# Altium schematic symbol library Schlib1.SchLib: 122 symbols
Pins are listed as number, name and electrical type; pins without a type are passive.

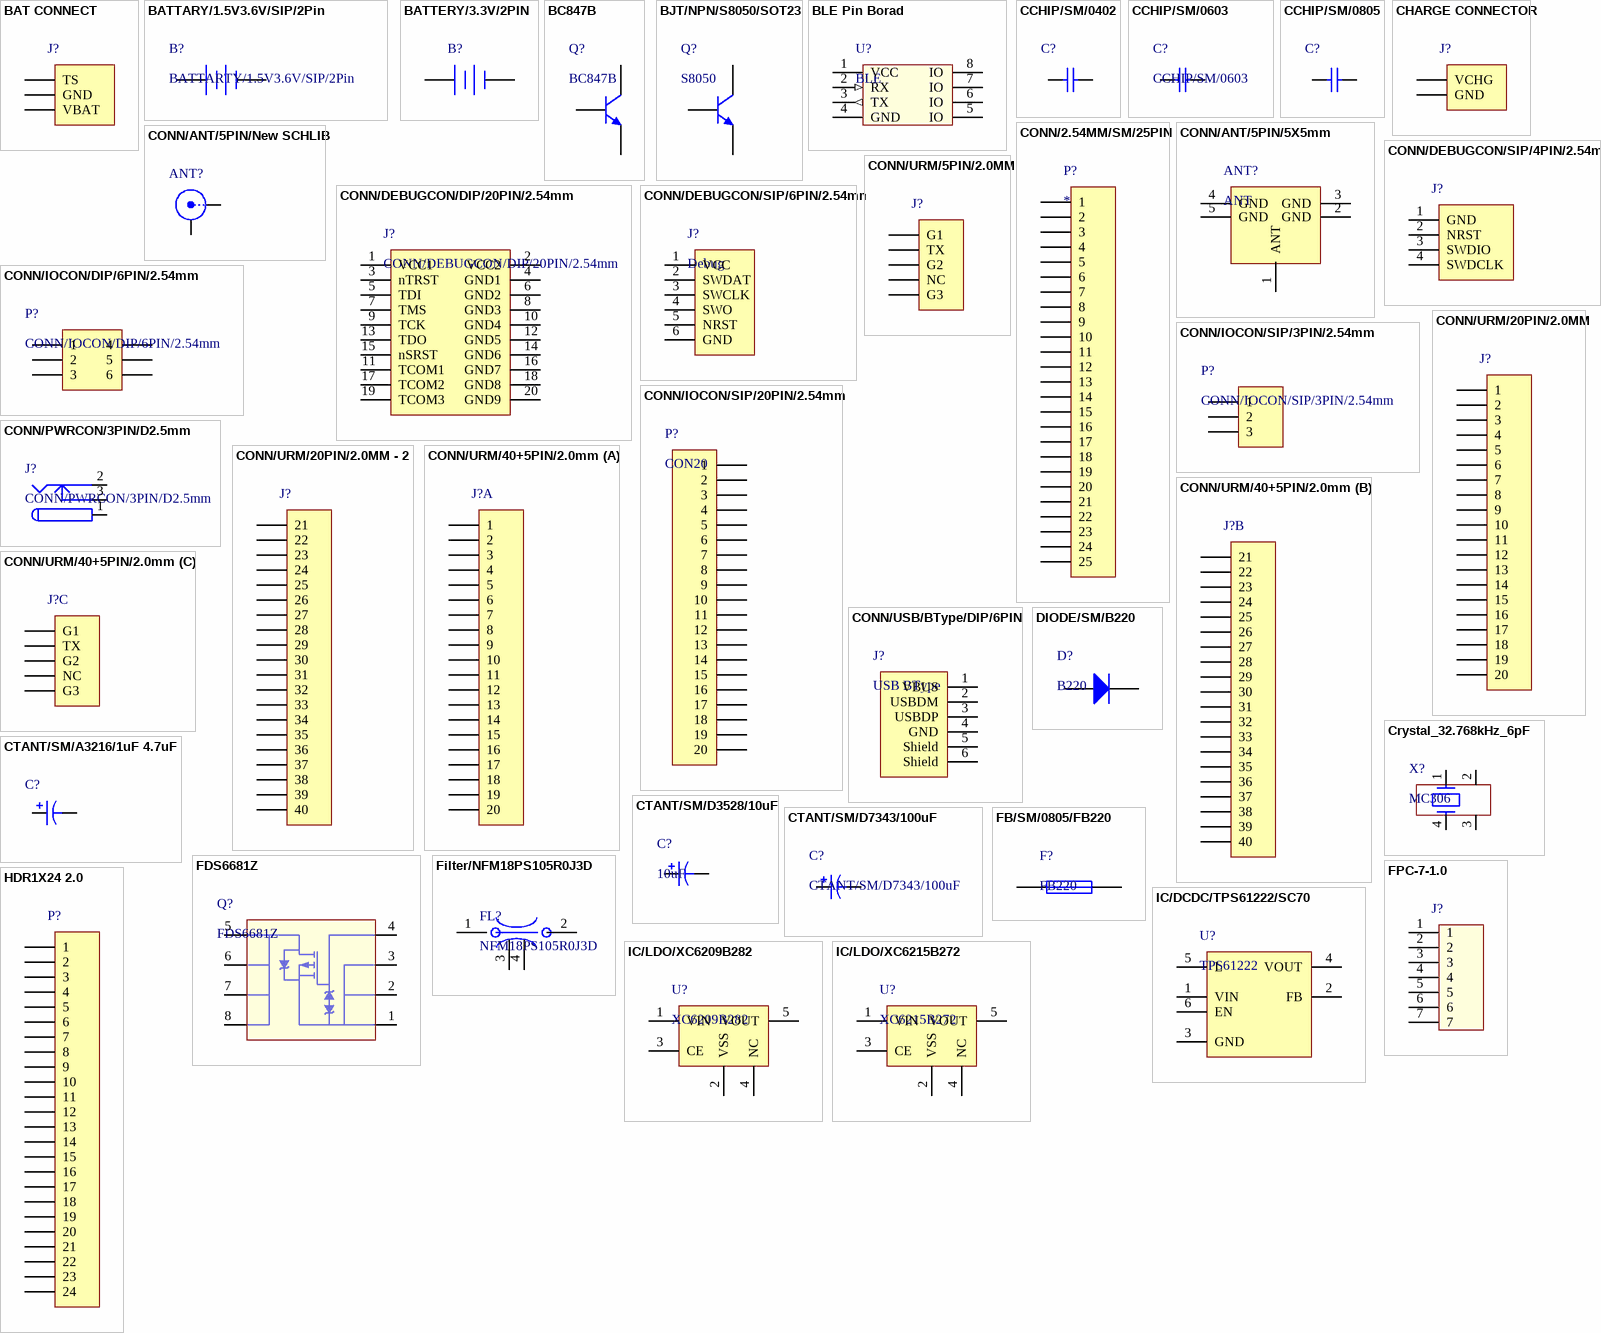
[diagram p0: symbols BAT CONNECT to IC/LDO/XC6215B272]

## BAT CONNECT
designator J?, comment XH-3  (value not drawn)
XH-3 2.0MM 3PIN
footprint XH-3
pins: 1 TS, 2 GND, 3 VBAT

## BATTARY/1.5V3.6V/SIP/2Pin
designator B?, comment BATTARTY/1.5V3.6V/SIP/2Pin
1.5V/3.6V AA电池座(5号电池)
footprint CONN/BATBOX/1.5V/14500
pins: 1 +, 2 -

## BATTERY/3.3V/2PIN
designator B?  (value not drawn)
3.3V纽扣电池(4节并联)CR2032
footprint BATTERY/3.3V/2PIN
pins: 1 +, 2 -

## BC847B
designator Q?
General purpose NPN Transistor
footprint SOT23_BC847B
pins: 1 B, 2 E, 3 C

## BJT/NPN/S8050/SOT23
designator Q?, comment S8050
NPN小功率三极管
footprint SOT-23-3
pins: 1 B, 2 E, 3 C

## BLE Pin Borad
designator U?, comment BLE
BLE Pin Board USRAT SPI  I2C
footprint BLE Pin Board
pins: 1 VCC (power), 2 RX (in), 3 TX (out), 4 GND (power), 5 IO, 6 IO, 7 IO, 8 IO

## CCHIP/SM/0402
designator C?  (value not drawn)
0402贴片电容
footprint 0402 with no topoverlayer
pins: 1, 2

## CCHIP/SM/0603
designator C?
瓷片电容
footprint 0603c
footprint 0402
footprint 0805C
footprint 0603 with no topoverlay
pins: 1, 2

## CCHIP/SM/0805
designator C?  (value not drawn)
瓷片电容
footprint 0805 with no topoverlay
pins: 1, 2

## CHARGE CONNECTOR
designator J?  (value not drawn)
Charge Connector XH-2 2.0MM
footprint XH-2
pins: 1 VCHG, 2 GND

## CONN/2.54MM/SM/25PIN
designator P?
2.54mm间距 25pin 贴片排针
footprint CONN/25PIN/2.54MM/SM
pins: 1, 2, 3, 4, 5, 6, 7, 8, 9, 10, 11, 12, 13, 14, 15, 16, 17, 18, 19, 20, 21, 22, 23, 24, 25

## CONN/ANT/5PIN/5X5mm
designator ANT?, comment ANT
直插天线接口,5PIN,5X5mm
footprint CONN/ANT/5PIN/5X5mm
pins: 1 ANT, 2 GND, 3 GND, 4 GND, 5 GND

## CONN/ANT/5PIN/New SCHLIB
designator ANT?  (value not drawn)
天线连接器
pins: 1 Signal "RF signal", 2 GND "Ground signal", 3 hidden to GND, 4 hidden to GND, 5 hidden to GND

## CONN/DEBUGCON/DIP/20PIN/2.54mm
designator J?
STM32调试接口双排20pin
footprint CONN/DEBUGCON/20PIN
pins: 1 VCC1, 2 VCC2, 3 nTRST, 4 GND1, 5 TDI, 6 GND2, 7 TMS, 8 GND3, 9 TCK, 10 GND4, 11 TCOM1, 12 GND5, 13 TDO, 14 GND6, 15 nSRST, 16 GND7, 17 TCOM2, 18 GND8, 19 TCOM3, 20 GND9

## CONN/DEBUGCON/SIP/4PIN/2.54mm
designator J?  (value not drawn)
STM32仿真、下载接口，4pin，2.54mm
footprint CONN/DEBUGCON/4PIN/2.54MM
footprint CONN/DEBUG CON/2.54mm/4pin/SMT
footprint CONN/FPC/4PIN/0.5MM
pins: 1 GND, 2 NRST, 3 SWDIO, 4 SWDCLK

## CONN/DEBUGCON/SIP/6PIN/2.54mm
designator J?, comment Debug
STM32仿真、下载接口，6pin，2.54mm
footprint CONN/DEBUGCON/SIP/6PIN/2.54mm
pins: 1 VCC, 2 SWDAT, 3 SWCLK, 4 SWO, 5 NRST, 6 GND

## CONN/IOCON/DIP/6PIN/2.54mm
designator P?
2.54mm双排直插6PIN插针
pins: 1, 2, 3, 4, 5, 6

## CONN/IOCON/SIP/3PIN/2.54mm
designator P?
2.54mm单排3pin插针
footprint CONN/SIP/3PIN/2.54mm
pins: 1, 2, 3

## CONN/IOCON/SIP/20PIN/2.54mm
designator P?, comment CON20
20PIN，2.54mm间距接插件
footprint CONN/IOCON/SIP/20PIN/2.54mm
pins: 1, 2, 3, 4, 5, 6, 7, 8, 9, 10, 11, 12, 13, 14, 15, 16, 17, 18, 19, 20

## CONN/PWRCON/3PIN/D2.5mm
designator J?
2.5mm直径电源接头
pins: 1 (power), 1A (power), 1B (power), 2 (power), 2A (power), 2B (power), 3 (power), 3A (power), 3B (power)

## CONN/URM/5PIN/2.0MM
designator J?  (value not drawn)
URM模块引脚,5PIN,2.0MM
footprint CONN/URM/5PIN/2.0MM
pins: G1, G2, G3, NC, TX

## CONN/URM/20PIN/2.0MM
designator J?  (value not drawn)
URM模块引脚,20PIN,2.0MM
footprint CON/URM/20PIN/2.0MM
pins: 1, 2, 3, 4, 5, 6, 7, 8, 9, 10, 11, 12, 13, 14, 15, 16, 17, 18, 19, 20

## CONN/URM/20PIN/2.0MM - 2
designator J?  (value not drawn)
URM模块引脚,20PIN,2.0MM - 2
footprint CONN/URM/20PIN/2.0MM - 2
pins: 21, 22, 23, 24, 25, 26, 27, 28, 29, 30, 31, 32, 33, 34, 35, 36, 37, 38, 39, 40

## CONN/URM/40+5PIN/2.0mm
designator J?  (value not drawn)
URM模块引脚,带边框
footprint URM CONN with Outline
part A pins: 1, 2, 3, 4, 5, 6, 7, 8, 9, 10, 11, 12, 13, 14, 15, 16, 17, 18, 19, 20
part B pins: 21, 22, 23, 24, 25, 26, 27, 28, 29, 30, 31, 32, 33, 34, 35, 36, 37, 38, 39, 40
part C pins: G1, G2, G3, NC, TX

## CONN/USB/BType/DIP/6PIN
designator J?, comment USB BType
B型USB母头方口
footprint CONN/USB/BType/DIP/6PIN
pins: 1 VBUS, 2 USBDM, 3 USBDP, 4 GND, 5 Shield, 6 Shield

## Crystal_32.768kHz_6pF
designator X?, comment MC306
EPSON 32.768kHz 6pF 20ppm
footprint SM8
pins: 1, 2, 3, 4

## CTANT/SM/A3216/1uF 4.7uF
designator C?  (value not drawn)
A3216型钽电容1uF 16V或4.7uF 10V
footprint A3216
pins: 1, 2

## CTANT/SM/D3528/10uF
designator C?, comment 10uF
D3528贴片钽电容10uF
footprint D3528
pins: 1, 2

## CTANT/SM/D7343/100uF
designator C?
D7343 钽电容
footprint D7343
pins: 1, 2

## DIODE/SM/B220
designator D?, comment B220
B220贴片二极管
footprint DIODE/SM/B220
pins: 1 A, 2 K

## FB/SM/0805/FB220
designator F?, comment FB220
磁珠
footprint 0805C
footprint 2012-L
pins: 1, 2

## FDS6681Z
designator Q?
P Channel MOS Vgs = -4.5V Rds = 6.5mΩ
footprint SO-8
pins: 1 S, 2 S, 3 S, 4 G, 5 D, 6 D, 7 D, 8 D

## Filter/NFM18PS105R0J3D
designator FL?, comment NFM18PS105R0J3D
SURFACE MOUNT EMI FILTERS/MURATA
footprint Filter/Surface Mount EMI Filters
pins: 1, 2, 3, 4

## FPC-7-1.0
designator J?  (value not drawn)
FPC 7pin 1.0mm
footprint FPC-7-1.0
pins: 1, 2, 3, 4, 5, 6, 7

## HDR1X24 2.0
designator P?  (value not drawn)
CONNECTOR 1X24Pin 2.0mm
footprint HDR1X24 2.0mm
pins: 1, 2, 3, 4, 5, 6, 7, 8, 9, 10, 11, 12, 13, 14, 15, 16, 17, 18, 19, 20, 21, 22, 23, 24

## IC/DCDC/TPS61222/SC70
designator U?, comment TPS61222
升压电源IC 0.7 - 5V转5V
footprint SC70
pins: 1 VIN, 2 FB, 3 GND, 4 VOUT, 5 L, 6 EN

## IC/LDO/XC6209B282
designator U?, comment XC6209B282
2.8V 150mA 25uA-Iq LDO
footprint SOT-25
pins: 1 VIN, 2 VSS, 3 CE, 4 NC, 5 VOUT

## IC/LDO/XC6215B272
designator U?, comment XC6215B272
2.7V 150mA 0.8uA-Iq LDO
footprint SOT-25
pins: 1 VIN, 2 VSS, 3 CE, 4 NC, 5 VOUT

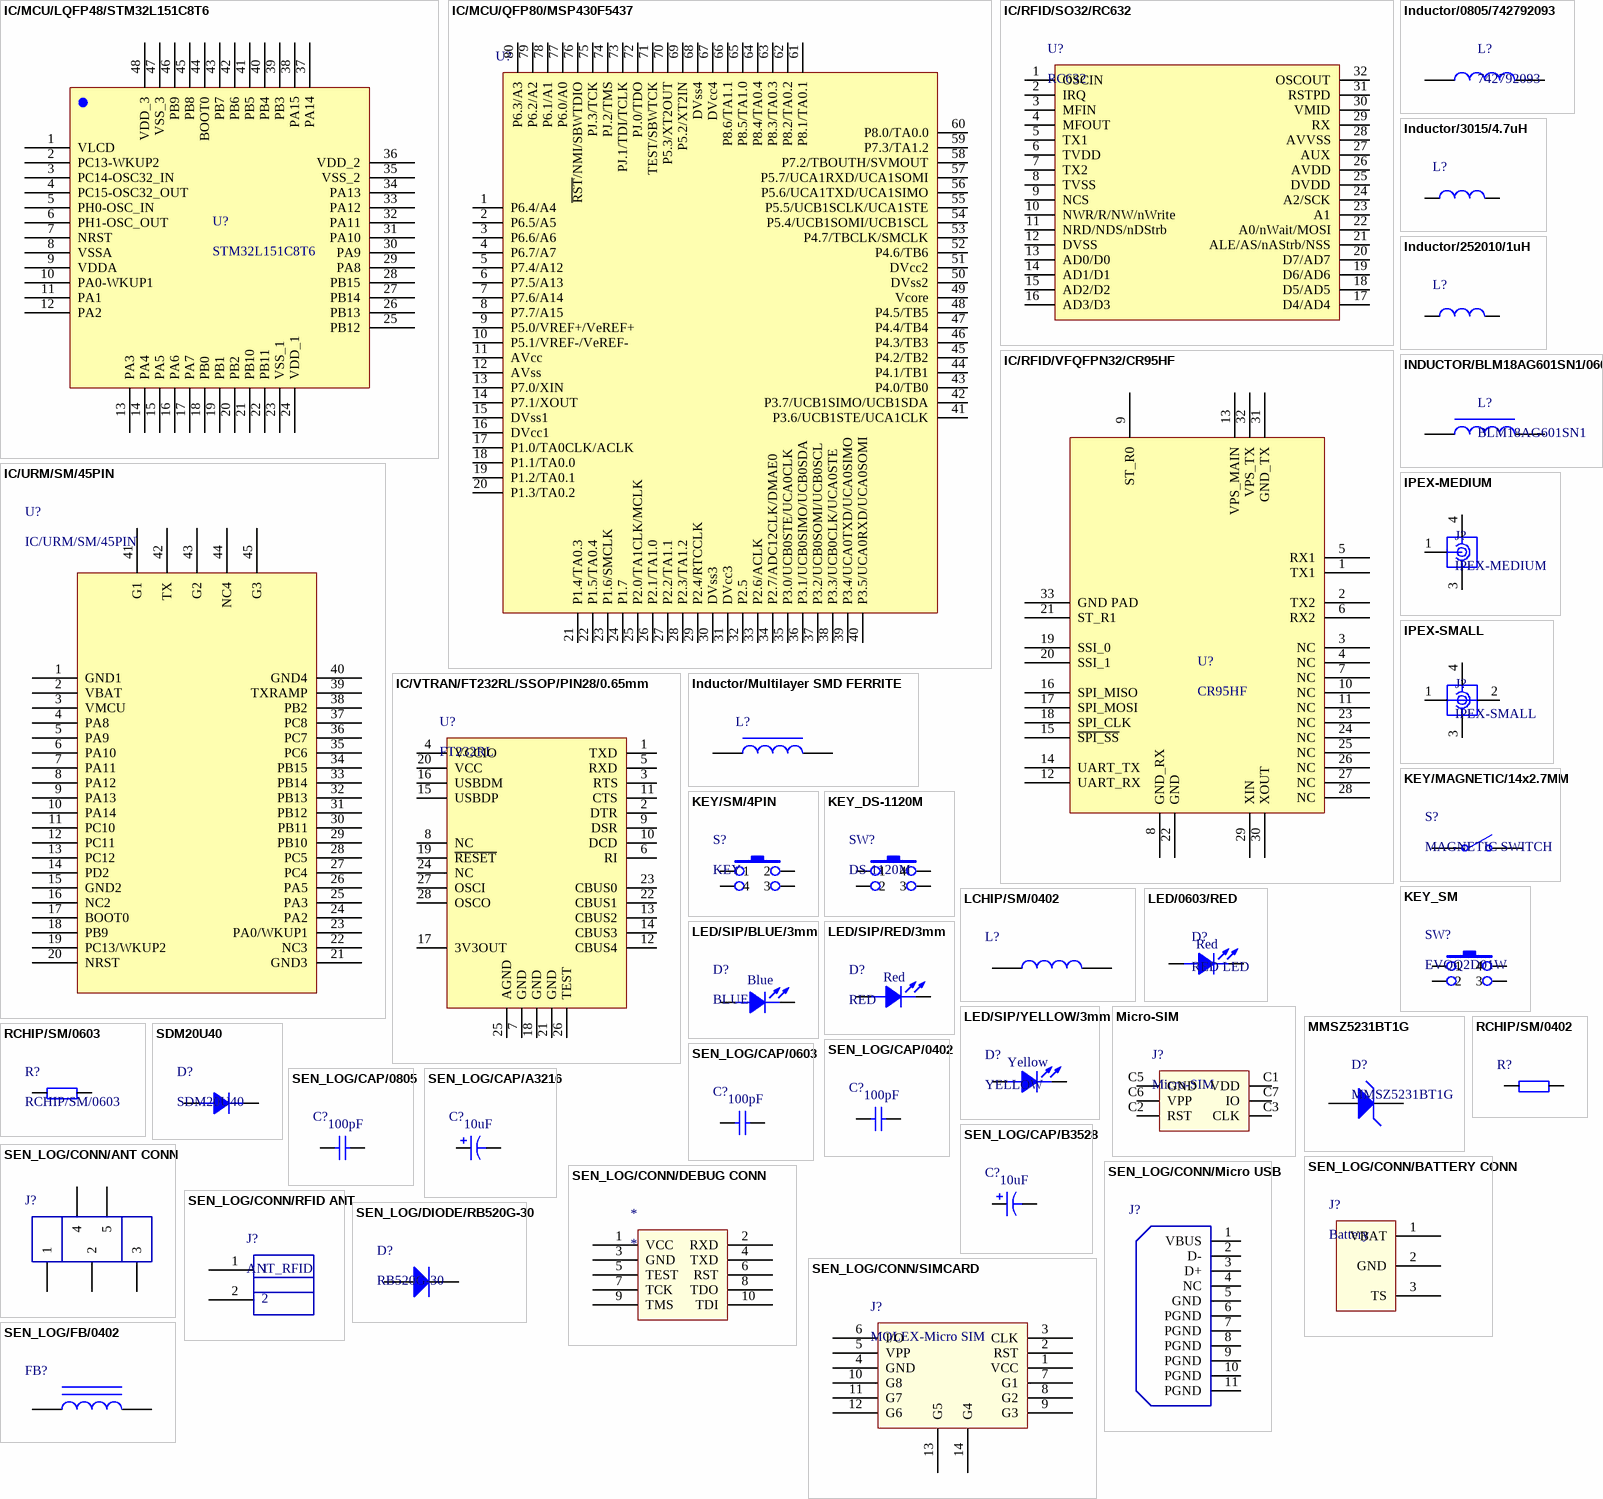
[diagram p1: symbols IC/MCU/LQFP48/STM32L151C8T6 to SEN_LOG/FB/0402]

## IC/MCU/LQFP48/STM32L151C8T6
designator U?, comment STM32L151C8T6
ARM M3 内核低功耗处理器
footprint LQFP48
pins: 1 VLCD, 2 PC13-WKUP2, 3 PC14-OSC32_IN, 4 PC15-OSC32_OUT, 5 PH0-OSC_IN, 6 PH1-OSC_OUT, 7 NRST, 8 VSSA, 9 VDDA, 10 PA0-WKUP1, 11 PA1, 12 PA2, 13 PA3, 14 PA4, 15 PA5, 16 PA6, 17 PA7, 18 PB0, 19 PB1, 20 PB2, 21 PB10, 22 PB11, 23 VSS_1, 24 VDD_1, 25 PB12, 26 PB13, 27 PB14, 28 PB15, 29 PA8, 30 PA9, 31 PA10, 32 PA11, 33 PA12, 34 PA13, 35 VSS_2, 36 VDD_2, 37 PA14, 38 PA15, 39 PB3, 40 PB4, 41 PB5, 42 PB6, 43 PB7, 44 BOOT0, 45 PB8, 46 PB9, 47 VSS_3, 48 VDD_3

## IC/MCU/QFP80/MSP430F5437
designator U?  (value not drawn)
16位低功耗单片机
footprint QFP80/MSP430F5437
pins: 1 P6.4/A4, 2 P6.5/A5, 3 P6.6/A6, 4 P6.7/A7, 5 P7.4/A12, 6 P7.5/A13, 7 P7.6/A14, 8 P7.7/A15, 9 P5.0/VREF+/VeREF+, 10 P5.1/VREF-/VeREF-, 11 AVcc, 12 AVss, 13 P7.0/XIN, 14 P7.1/XOUT, 15 DVss1, 16 DVcc1, 17 P1.0/TA0CLK/ACLK, 18 P1.1/TA0.0, 19 P1.2/TA0.1, 20 P1.3/TA0.2, 21 P1.4/TA0.3, 22 P1.5/TA0.4, 23 P1.6/SMCLK, 24 P1.7, 25 P2.0/TA1CLK/MCLK, 26 P2.1/TA1.0, 27 P2.2/TA1.1, 28 P2.3/TA1.2, 29 P2.4/RTCCLK, 30 DVss3, 31 DVcc3, 32 P2.5, 33 P2.6/ACLK, 34 P2.7/ADC12CLK/DMAE0, 35 P3.0/UCB0STE/UCA0CLK, 36 P3.1/UCB0SIMO/UCB0SDA, 37 P3.2/UCB0SOMI/UCB0SCL, 38 P3.3/UCB0CLK/UCA0STE, 39 P3.4/UCA0TXD/UCA0SIMO, 40 P3.5/UCA0RXD/UCA0SOMI, 41 P3.6/UCB1STE/UCA1CLK, 42 P3.7/UCB1SIMO/UCB1SDA, 43 P4.0/TB0, 44 P4.1/TB1, 45 P4.2/TB2, 46 P4.3/TB3, 47 P4.4/TB4, 48 P4.5/TB5, 49 Vcore, 50 DVss2, 51 DVcc2, 52 P4.6/TB6, 53 P4.7/TBCLK/SMCLK, 54 P5.4/UCB1SOMI/UCB1SCL, 55 P5.5/UCB1SCLK/UCA1STE, 56 P5.6/UCA1TXD/UCA1SIMO, 57 P5.7/UCA1RXD/UCA1SOMI, 58 P7.2/TBOUTH/SVMOUT, 59 P7.3/TA1.2, 60 P8.0/TA0.0, 61 P8.1/TA0.1, 62 P8.2/TA0.2, 63 P8.3/TA0.3, 64 P8.4/TA0.4, 65 P8.5/TA1.0, 66 P8.6/TA1.1, 67 DVcc4, 68 DVss4, 69 P5.2/XT2IN, 70 P5.3/XT2OUT, 71 TEST/SBWTCK, 72 PJ.0/TDO, 73 PJ.1/TDI/TCLK, 74 PJ.2/TMS, 75 PJ.3/TCK, 76 ~{RST}/NMI/SBWTDIO, 77 P6.0/A0, 78 P6.1/A1, 79 P6.2/A2, 80 P6.3/A3

## IC/RFID/SO32/RC632
designator U?, comment RC632
支持14443A、14443B、15693协议的RFID基站芯片
footprint SO32
pins: 1 OSCIN, 2 IRQ, 3 MFIN, 4 MFOUT, 5 TX1, 6 TVDD, 7 TX2, 8 TVSS, 9 NCS, 10 NWR/R/NW/nWrite, 11 NRD/NDS/nDStrb, 12 DVSS, 13 AD0/D0, 14 AD1/D1, 15 AD2/D2, 16 AD3/D3, 17 D4/AD4, 18 D5/AD5, 19 D6/AD6, 20 D7/AD7, 21 ALE/AS/nAStrb/NSS, 22 A0/nWait/MOSI, 23 A1, 24 A2/SCK, 25 DVDD, 26 AVDD, 27 AUX, 28 AVVSS, 29 RX, 30 VMID, 31 RSTPD, 32 OSCOUT

## IC/RFID/VFQFPN32/CR95HF
designator U?, comment CR95HF
RFID读写芯片，支持14443A、B及15693
footprint VFQFPN32 (CR95HF)
pins: 1 TX1, 2 TX2, 3 NC, 4 NC, 5 RX1, 6 RX2, 7 NC, 8 GND_RX, 9 ST_R0, 10 NC, 11 NC, 12 UART_RX, 13 VPS_MAIN, 14 UART_TX, 15 ~{SPI_SS}, 16 SPI_MISO, 17 SPI_MOSI, 18 SPI_CLK, 19 SSI_0, 20 SSI_1, 21 ST_R1, 22 GND, 23 NC, 24 NC, 25 NC, 26 NC, 27 NC, 28 NC, 29 XIN, 30 XOUT, 31 GND_TX, 32 VPS_TX, 33 GND PAD

## IC/URM/SM/45PIN
designator U?
URM模块
footprint IC/URM/45PIN
pins: 1 GND1, 2 VBAT, 3 VMCU, 4 PA8, 5 PA9, 6 PA10, 7 PA11, 8 PA12, 9 PA13, 10 PA14, 11 PC10, 12 PC11, 13 PC12, 14 PD2, 15 GND2, 16 NC2, 17 BOOT0, 18 PB9, 19 PC13/WKUP2, 20 NRST, 21 GND3, 22 NC3, 23 PA0/WKUP1, 24 PA2, 25 PA3, 26 PA5, 27 PC4, 28 PC5, 29 PB10, 30 PB11, 31 PB12, 32 PB13, 33 PB14, 34 PB15, 35 PC6, 36 PC7, 37 PC8, 38 PB2, 39 TXRAMP, 40 GND4, 41 G1, 42 TX, 43 G2, 44 NC4, 45 G3

## IC/VTRAN/FT232RL/SSOP/PIN28/0.65mm
designator U?, comment FT232RL
USB转RS232电平转换
footprint SSOP28/0.65mm
pins: 1 TXD, 2 DTR, 3 RTS, 4 VCCIO, 5 RXD, 6 RI, 7 GND, 8 NC, 9 DSR, 10 DCD, 11 CTS, 12 CBUS4, 13 CBUS2, 14 CBUS3, 15 USBDP, 16 USBDM, 17 3V3OUT, 18 GND, 19 ~{RESET}, 20 VCC, 21 GND, 22 CBUS1, 23 CBUS0, 24 NC, 25 AGND, 26 TEST, 27 OSCI, 28 OSCO

## Inductor/0805/742792093
designator L?, comment 742792093
铁氧体磁珠 Wurth Electronics Inc FERRITE BEAD 2200 OHM .20A 0805
footprint INDUCTOR/0805/742792093
pins: 1, 2

## Inductor/3015/4.7uH
designator L?  (value not drawn)
3015电感，4.7uH
footprint Inductor 3015
pins: 1, 2

## Inductor/252010/1uH
designator L?  (value not drawn)
2.5mmX2.0mmX1.0mm,1uH电感
footprint Inductor 252010
pins: 1, 2

## INDUCTOR/BLM18AG601SN1/0603
designator L?, comment BLM18AG601SN1
村田铁氧体磁珠
footprint 0603c
pins: 1, 2

## Inductor/Multilayer SMD FERRITE
designator L?  (value not drawn)
WURTH ELETRONIK productor,多层铁氧体电感，742792042
footprint Inductor/Multilayer SMD FERRITE
pins: 1, 2

## IPEX-MEDIUM
designator J?
IPEX ANT CONNECTOR MEDIUM
footprint IPEX-MEDIUM
pins: 1, 3, 4

## IPEX-SMALL
designator J?
IPEX ANT CONNECTOR
footprint IPEX-SMALL
pins: 1, 2, 3, 4

## KEY/MAGNETIC/14x2.7MM
designator S?, comment MAGNETIC SWITCH
14X2.7mm干簧管
footprint KEY/MAGNETIC/14X2.7MM
pins: 1 COMMON, 2 NO

## KEY/SM/4PIN
designator S?, comment KEY
贴片四脚按键
footprint KEY/SM/4PIN
pins: 1, 2, 3, 4

## KEY_DS-1120M
designator SW?, comment DS-1120M
大行程按键
footprint KEY_DS-1120M
pins: 1, 2, 3, 4

## KEY_SM
designator SW?, comment EVQQ2D01W
SM KEY 4Pin
footprint KEY_SM
pins: 1, 2, 3, 4

## LCHIP/SM/0402
designator L?  (value not drawn)
0402贴片电感
footprint 0402 with no topoverlayer
pins: 1, 2

## LED/0603/RED
designator D?, comment RED LED
0603贴片红色LED
footprint LED/0603
pins: 1 ANODE, 2 CATHODE
text: Red

## LED/SIP/BLUE/3mm
designator D?, comment BLUE
3mm直插蓝色LED
footprint LED/SIP/3mm
pins: 1 ANODE, 2 CATHODE
text: Blue

## LED/SIP/RED/3mm
designator D?, comment RED
3mm红色直插LED
footprint LED/SIP/3mm
pins: 1 ANODE, 2 CATHODE
text: Red

## LED/SIP/YELLOW/3mm
designator D?, comment YELLOW
3mm直插黄色LED
footprint LED/SIP/3mm
pins: 1 ANODE, 2 CATHODE
text: Yellow

## Micro-SIM
designator J?
Molex Micro-SIM Socket 6pin
footprint MICRO-SIM
pins: C1 VDD, C2 RST, C3 CLK, C5 GND, C6 VPP, C7 IO

## MMSZ5231BT1G
designator D?
Zener diodes 5.1V 500mW SOD-123
footprint SOD-123
pins: 1 A, 2 K

## RCHIP/SM/0402
designator R?  (value not drawn)
0402贴片电阻
footprint 0402 with no topoverlayer
pins: 1, 2

## RCHIP/SM/0603
designator R?
贴片0603电阻
footprint 0603R
pins: 1, 2

## SDM20U40
designator D?
Suface Mount Schottky Barrier Diode; Value: SDM20U40
footprint SOD-523
pins: 1 ANODE, 2 CATHODE

## SEN_LOG/CAP/0402
designator C?  (value not drawn)
0402贴片电容
footprint SEN_LOG/RES & CAP/0402
pins: 1, 2
text: 100pF

## SEN_LOG/CAP/0603
designator C?  (value not drawn)
0603贴片电容
footprint SEN_LOG/RES & CAP/0603
pins: 1, 2
text: 100pF

## SEN_LOG/CAP/0805
designator C?  (value not drawn)
0805贴片电容
footprint SEN_LOG/RES & CAP/0805
footprint 1206-C
pins: 1, 2
text: 100pF

## SEN_LOG/CAP/A3216
designator C?  (value not drawn)
A3216贴片钽电容
footprint SEN_LOG/CAP/A3216
footprint TAN-A3216
pins: 1, 2
text: 10uF

## SEN_LOG/CAP/B3528
designator C?  (value not drawn)
B3528贴片钽电容
footprint SEN_LOG/CAP/B3528
footprint TAN-B3528
pins: 1, 2
text: 10uF

## SEN_LOG/CONN/ANT CONN
designator J?  (value not drawn)
GPS、GPRS天线
pins: 1, 2, 3, 4, 5

## SEN_LOG/CONN/BATTERY CONN
designator J?, comment Battery
三脚电池座
footprint SEN_LOG/CONN/BATTERY CONN
pins: 1 VBAT, 2 GND, 3 TS

## SEN_LOG/CONN/DEBUG CONN
designator *
调试座
pins: 1 VCC, 2 RXD, 3 GND, 4 TXD, 5 TEST, 6 RST, 7 TCK, 8 TDO, 9 TMS, 10 TDI

## SEN_LOG/CONN/Micro USB
designator J?  (value not drawn)
Micro USB接口
pins: 1 VBUS, 2 D-, 3 D+, 4 NC, 5 GND, 6 PGND, 7 PGND, 8 PGND, 9 PGND, 10 PGND, 11 PGND

## SEN_LOG/CONN/RFID ANT
designator J?, comment ANT_RFID
RFID天线接口
footprint SEN_LOG/CONN/RFID ANT
pins: 1, 2

## SEN_LOG/CONN/SIMCARD
designator J?, comment MOLEX-Micro SIM
Micro SIM卡座
pins: 1 VCC, 2 RST, 3 CLK, 4 GND, 5 VPP, 6 I/O, 7 G1, 8 G2, 9 G3, 10 G8, 11 G7, 12 G6, 13 G5, 14 G4

## SEN_LOG/DIODE/RB520G-30
designator D?, comment RB520G-30
肖特基二极管
pins: 1 A, 2 K

## SEN_LOG/FB/0402
designator FB?  (value not drawn)
磁珠0402
footprint SEN_LOG/RES & CAP/0402
pins: 1, 2

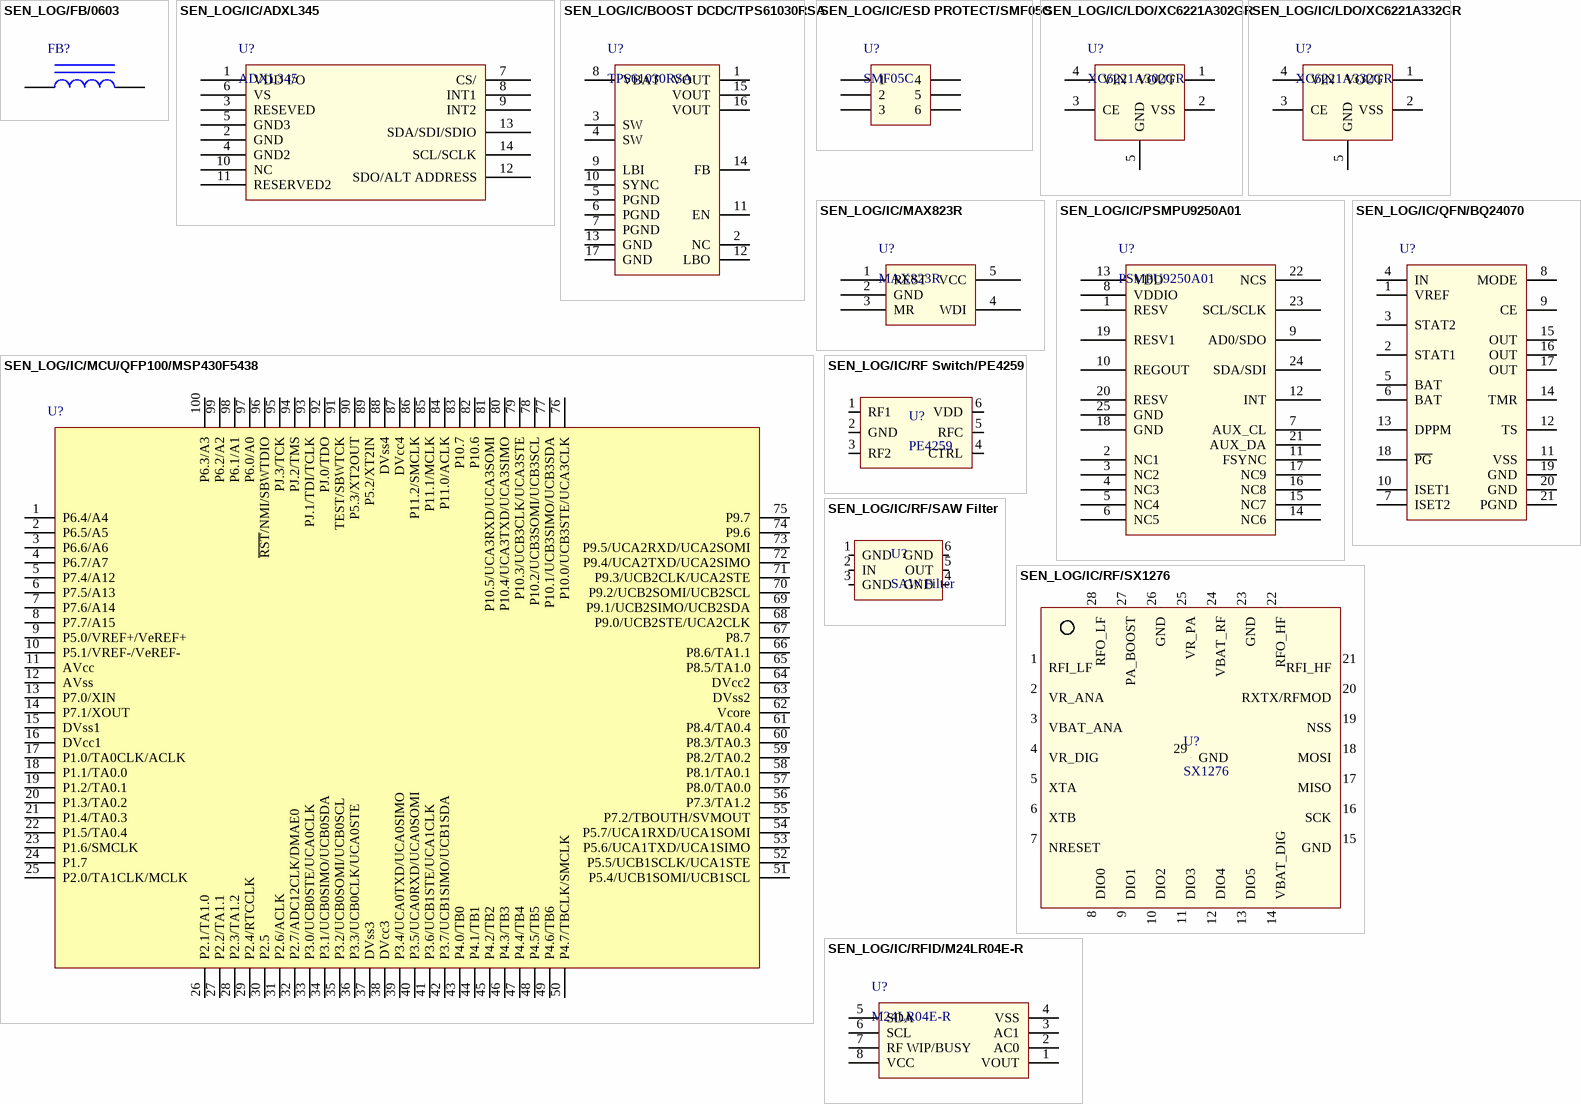
[diagram p2: symbols SEN_LOG/FB/0603 to SEN_LOG/IC/RFID/M24LR04E-R]

## SEN_LOG/FB/0603
designator FB?  (value not drawn)
磁珠 0603
footprint SEN_LOG/RES & CAP/0603
pins: 1, 2

## SEN_LOG/IC/ADXL345
designator U?, comment ADXL345
3轴加速度传感器
pins: 1 VDD I/O, 2 GND, 3 RESEVED, 4 GND2, 5 GND3, 6 VS, 7 CS/, 8 INT1, 9 INT2, 10 NC, 11 RESERVED2, 12 SDO/ALT ADDRESS, 13 SDA/SDI/SDIO, 14 SCL/SCLK

## SEN_LOG/IC/BOOST DCDC/TPS61030RSA
designator U?, comment TPS61030RSA
BOOST升压 DC-DC芯片
footprint SEN_LOG/IC/BOOST DCDC/TPS61030
pins: 1 VOUT, 2 NC, 3 SW, 4 SW, 5 PGND, 6 PGND, 7 PGND, 8 VBAT, 9 LBI, 10 SYNC, 11 EN, 12 LBO, 13 GND, 14 FB, 15 VOUT, 16 VOUT, 17 GND

## SEN_LOG/IC/ESD PROTECT/SMF05C
designator U?, comment SMF05C
ESD保护元件
pins: 1, 2, 3, 4, 5, 6

## SEN_LOG/IC/LDO/XC6221A302GR
designator U?, comment XC6221A302GR
3.0V LDO
pins: 1 VOUT, 2 VSS, 3 CE, 4 VIN, 5 GND

## SEN_LOG/IC/LDO/XC6221A332GR
designator U?, comment XC6221A332GR
3.3V LDO
pins: 1 VOUT, 2 VSS, 3 CE, 4 VIN, 5 GND

## SEN_LOG/IC/MAX823R
designator U?, comment MAX823R
MCU复位及看门狗监控电路
pins: 1 REST, 2 GND, 3 MR, 4 WDI, 5 VCC

## SEN_LOG/IC/MCU/QFP100/MSP430F5438
designator U?  (value not drawn)
16位低功耗单片机 MSP430F5438
footprint QFP100/MSP430F5438
pins: 1 P6.4/A4, 2 P6.5/A5, 3 P6.6/A6, 4 P6.7/A7, 5 P7.4/A12, 6 P7.5/A13, 7 P7.6/A14, 8 P7.7/A15, 9 P5.0/VREF+/VeREF+, 10 P5.1/VREF-/VeREF-, 11 AVcc, 12 AVss, 13 P7.0/XIN, 14 P7.1/XOUT, 15 DVss1, 16 DVcc1, 17 P1.0/TA0CLK/ACLK, 18 P1.1/TA0.0, 19 P1.2/TA0.1, 20 P1.3/TA0.2, 21 P1.4/TA0.3, 22 P1.5/TA0.4, 23 P1.6/SMCLK, 24 P1.7, 25 P2.0/TA1CLK/MCLK, 26 P2.1/TA1.0, 27 P2.2/TA1.1, 28 P2.3/TA1.2, 29 P2.4/RTCCLK, 30 P2.5, 31 P2.6/ACLK, 32 P2.7/ADC12CLK/DMAE0, 33 P3.0/UCB0STE/UCA0CLK, 34 P3.1/UCB0SIMO/UCB0SDA, 35 P3.2/UCB0SOMI/UCB0SCL, 36 P3.3/UCB0CLK/UCA0STE, 37 DVss3, 38 DVcc3, 39 P3.4/UCA0TXD/UCA0SIMO, 40 P3.5/UCA0RXD/UCA0SOMI, 41 P3.6/UCB1STE/UCA1CLK, 42 P3.7/UCB1SIMO/UCB1SDA, 43 P4.0/TB0, 44 P4.1/TB1, 45 P4.2/TB2, 46 P4.3/TB3, 47 P4.4/TB4, 48 P4.5/TB5, 49 P4.6/TB6, 50 P4.7/TBCLK/SMCLK, 51 P5.4/UCB1SOMI/UCB1SCL, 52 P5.5/UCB1SCLK/UCA1STE, 53 P5.6/UCA1TXD/UCA1SIMO, 54 P5.7/UCA1RXD/UCA1SOMI, 55 P7.2/TBOUTH/SVMOUT, 56 P7.3/TA1.2, 57 P8.0/TA0.0, 58 P8.1/TA0.1, 59 P8.2/TA0.2, 60 P8.3/TA0.3, 61 P8.4/TA0.4, 62 Vcore, 63 DVss2, 64 DVcc2, 65 P8.5/TA1.0, 66 P8.6/TA1.1, 67 P8.7, 68 P9.0/UCB2STE/UCA2CLK, 69 P9.1/UCB2SIMO/UCB2SDA, 70 P9.2/UCB2SOMI/UCB2SCL, 71 P9.3/UCB2CLK/UCA2STE, 72 P9.4/UCA2TXD/UCA2SIMO, 73 P9.5/UCA2RXD/UCA2SOMI, 74 P9.6, 75 P9.7, 76 P10.0/UCB3STE/UCA3CLK, 77 P10.1/UCB3SIMO/UCB3SDA, 78 P10.2/UCB3SOMI/UCB3SCL, 79 P10.3/UCB3CLK/UCA3STE, 80 P10.4/UCA3TXD/UCA3SIMO, 81 P10.5/UCA3RXD/UCA3SOMI, 82 P10.6, 83 P10.7, 84 P11.0/ACLK, 85 P11.1/MCLK, 86 P11.2/SMCLK, 87 DVcc4, 88 DVss4, 89 P5.2/XT2IN, 90 P5.3/XT2OUT, 91 TEST/SBWTCK, 92 PJ.0/TDO, 93 PJ.1/TDI/TCLK, 94 PJ.2/TMS, 95 PJ.3/TCK, 96 ~{RST}/NMI/SBWTDIO, 97 P6.0/A0, 98 P6.1/A1, 99 P6.2/A2, 100 P6.3/A3

## SEN_LOG/IC/PSMPU9250A01
designator U?, comment PSMPU9250A01
9轴传感器,加速度计、磁力计、陀螺仪
pins: 1 RESV, 2 NC1, 3 NC2, 4 NC3, 5 NC4, 6 NC5, 7 AUX_CL, 8 VDDIO, 9 AD0/SDO, 10 REGOUT, 11 FSYNC, 12 INT, 13 VDD, 14 NC6, 15 NC7, 16 NC8, 17 NC9, 18 GND, 19 RESV1, 20 RESV, 21 AUX_DA, 22 NCS, 23 SCL/SCLK, 24 SDA/SDI, 25 GND

## SEN_LOG/IC/QFN/BQ24070
designator U?  (value not drawn)
锂电池充电管理芯片
footprint SEN_LOG/IC/BQ24070
pins: 1 VREF, 2 STAT1, 3 STAT2, 4 IN, 5 BAT, 6 BAT, 7 ISET2, 8 MODE, 9 CE, 10 ISET1, 11 VSS, 12 TS, 13 DPPM, 14 TMR, 15 OUT, 16 OUT, 17 OUT, 18 ~{PG}, 19 GND, 20 GND, 21 PGND

## SEN_LOG/IC/RF Switch/PE4259
designator U?, comment PE4259
RF单刀双掷开关
footprint SC70-6 PE4259
pins: 1 RF1, 2 GND, 3 RF2, 4 CTRL, 5 RFC, 6 VDD

## SEN_LOG/IC/RF/SAW Filter
designator U?, comment SAW Filter
声表面滤波器
footprint SAW Filter
pins: 1 GND, 2 IN, 3 GND, 4 GND, 5 OUT, 6 GND

## SEN_LOG/IC/RF/SX1276
designator U?, comment SX1276
Semtech,LoRa双向无线通信芯片
footprint VQFN28
pins: 1 RFI_LF, 2 VR_ANA, 3 VBAT_ANA, 4 VR_DIG, 5 XTA, 6 XTB, 7 NRESET, 8 DIO0, 9 DIO1, 10 DIO2, 11 DIO3, 12 DIO4, 13 DIO5, 14 VBAT_DIG, 15 GND, 16 SCK, 17 MISO, 18 MOSI, 19 NSS, 20 RXTX/RFMOD, 21 RFI_HF, 22 RFO_HF, 23 GND, 24 VBAT_RF, 25 VR_PA, 26 GND, 27 PA_BOOST, 28 RFO_LF, 29 GND

## SEN_LOG/IC/RFID/M24LR04E-R
designator U?, comment M24LR04E-R
双接口I2C存储器
footprint SEN_LOG/IC/RFID/M24LR04E-R
pins: 1 VOUT, 2 AC0, 3 AC1, 4 VSS, 5 SDA, 6 SCL, 7 RF WIP/BUSY, 8 VCC

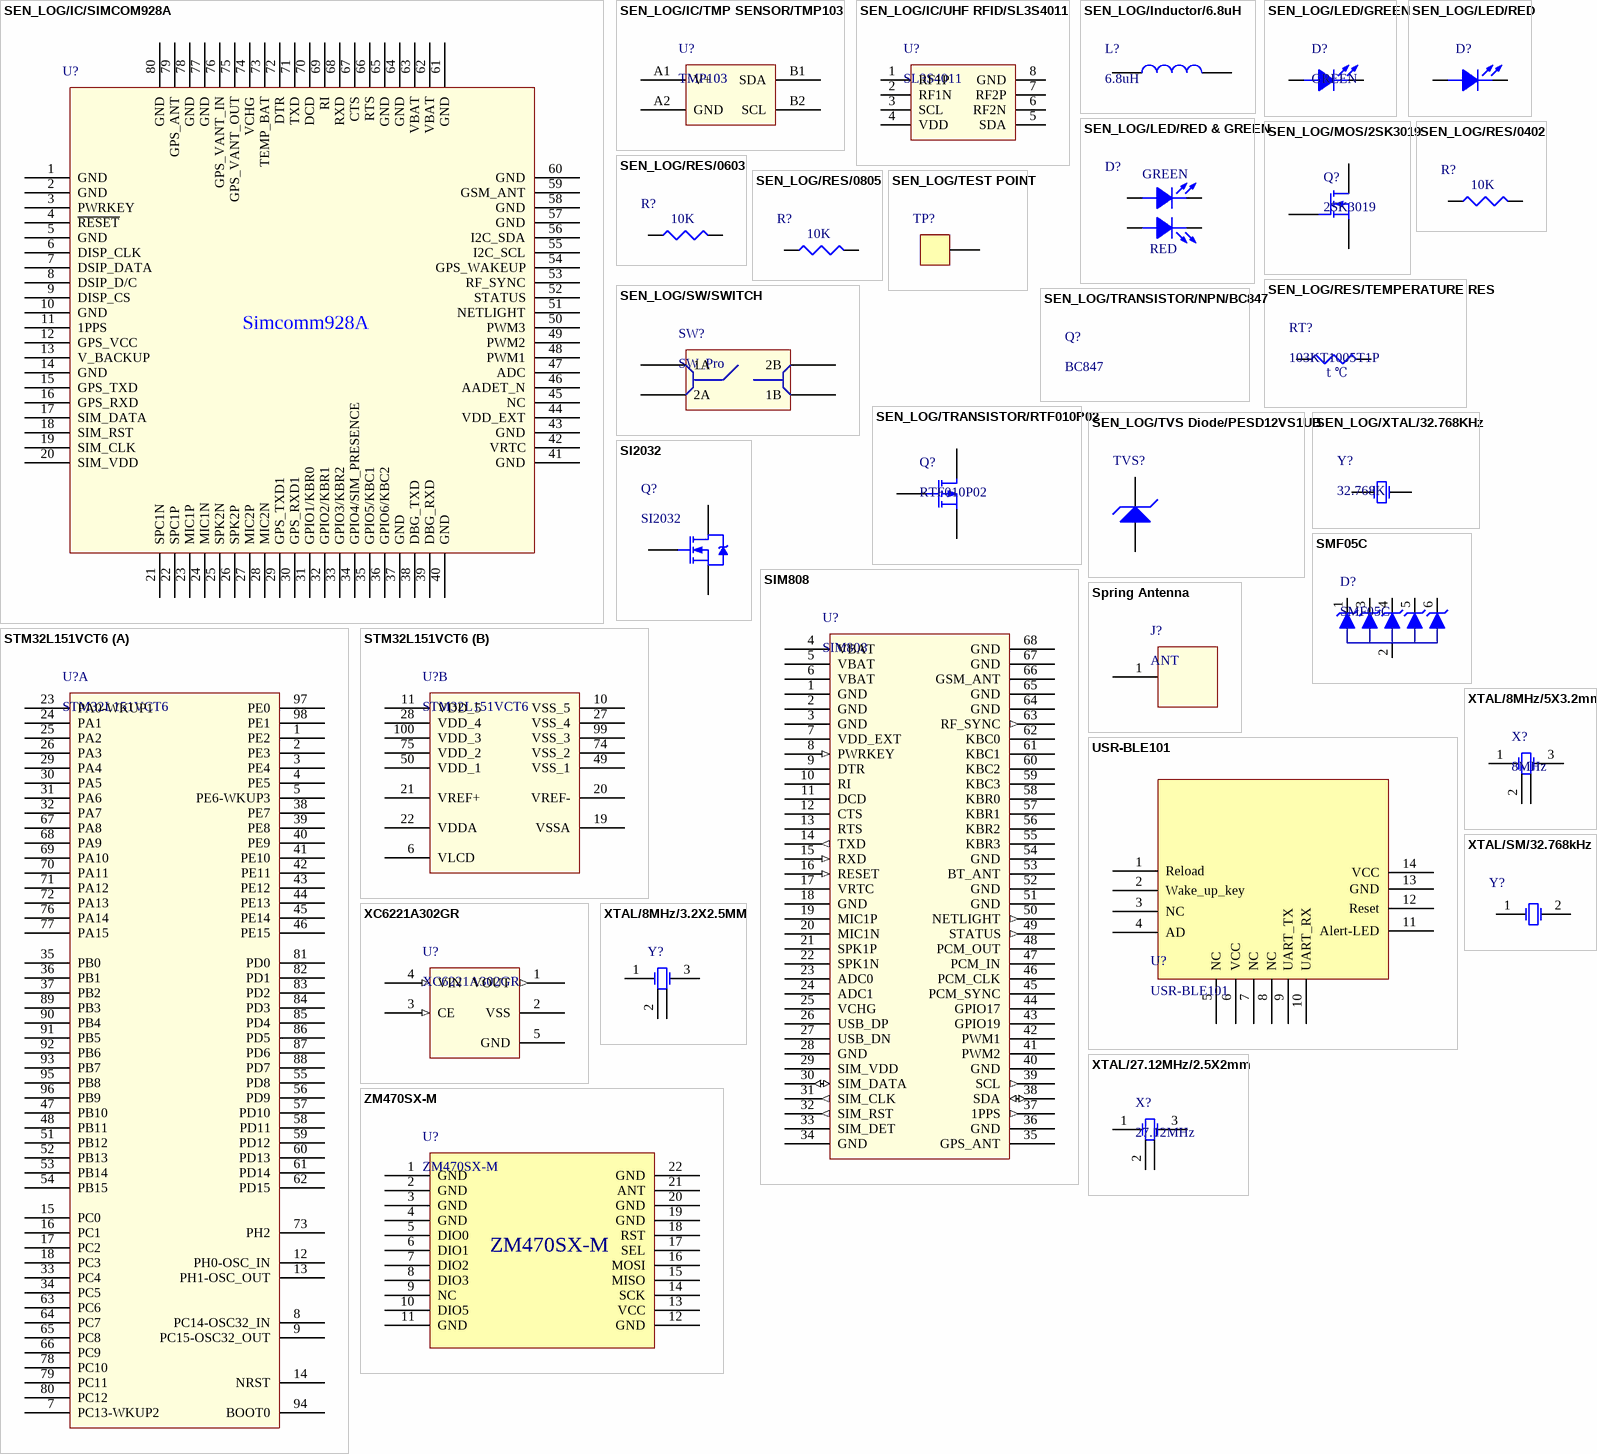
[diagram p3: symbols SEN_LOG/IC/SIMCOM928A to ZM470SX-M]

## SEN_LOG/IC/SIMCOM928A
designator U?  (value not drawn)
GPS/GPRS模块
pins: 1 GND, 2 GND, 3 PWRKEY, 4 ~{RESET}, 5 GND, 6 DISP_CLK, 7 DSIP_DATA, 8 DSIP_D/C, 9 DISP_CS, 10 GND, 11 1PPS, 12 GPS_VCC, 13 V_BACKUP, 14 GND, 15 GPS_TXD, 16 GPS_RXD, 17 SIM_DATA, 18 SIM_RST, 19 SIM_CLK, 20 SIM_VDD, 21 SPC1N, 22 SPC1P, 23 MIC1P, 24 MIC1N, 25 SPK2N, 26 SPK2P, 27 MIC2P, 28 MIC2N, 29 GPS_TXD1, 30 GPS_RXD1, 31 GPIO1/KBR0, 32 GPIO2/KBR1, 33 GPIO3/KBR2, 34 GPIO4/SIM_PRESENCE, 35 GPIO5/KBC1, 36 GPIO6/KBC2, 37 GND, 38 DBG_TXD, 39 DBG_RXD, 40 GND, 41 GND, 42 VRTC, 43 GND, 44 VDD_EXT, 45 NC, 46 AADET_N, 47 ADC, 48 PWM1, 49 PWM2, 50 PWM3, 51 NETLIGHT, 52 STATUS, 53 RF_SYNC, 54 GPS_WAKEUP, 55 I2C_SCL, 56 I2C_SDA, 57 GND, 58 GND, 59 GSM_ANT, 60 GND, 61 GND, 62 VBAT, 63 VBAT, 64 GND, 65 GND, 66 RTS, 67 CTS, 68 RXD, 69 RI, 70 DCD, 71 TXD, 72 DTR, 73 TEMP_BAT, 74 VCHG, 75 GPS_VANT_OUT, 76 GPS_VANT_IN, 77 GND, 78 GND, 79 GPS_ANT, 80 GND
text: Simcomm928A

## SEN_LOG/IC/TMP SENSOR/TMP103
designator U?, comment TMP103
温度传感器
pins: A1 V+, A2 GND, B1 SDA, B2 SCL

## SEN_LOG/IC/UHF RFID/SL3S4011
designator U?, comment SL3S4011
UHF频段双接口（I2C）RFID芯片
footprint SEN_LOG/IC/SL3S4011
pins: 1 RF1P, 2 RF1N, 3 SCL, 4 VDD, 5 SDA, 6 RF2N, 7 RF2P, 8 GND

## SEN_LOG/Inductor/6.8uH
designator L?, comment 6.8uH
BOOST芯片所用的电感
footprint SEN_LOG/Inductor/6.8uH
pins: 1, 2

## SEN_LOG/LED/GREEN
designator D?, comment GREEN
蓝色LED灯
pins: 1 ANODE, 2 CATHODE

## SEN_LOG/LED/RED
designator D?, comment RED  (value not drawn)
红色LED灯
footprint 0603_LED
pins: A ANODE, K CATHODE

## SEN_LOG/LED/RED & GREEN
designator D?  (value not drawn)
红绿双色LED灯
footprint SEN_LOG/LED/RED & GREEN
pins: 1 ANODE, 2 ANODE, 3 CATHODE, 4 CATHODE
text: GREEN; RED

## SEN_LOG/MOS/2SK3019
designator Q?, comment 2SK3019
N沟道增强型MOS管
footprint SEN_LOG/MOS/2SK3019
pins: 1 S, 2 G, 3 D

## SEN_LOG/RES/0402
designator R?  (value not drawn)
0402 贴片电阻
footprint SEN_LOG/RES & CAP/0402
pins: 1, 2
text: 10K

## SEN_LOG/RES/0603
designator R?  (value not drawn)
0603贴片电阻
footprint SEN_LOG/RES & CAP/0603
pins: 1, 2
text: 10K

## SEN_LOG/RES/0805
designator R?  (value not drawn)
0805贴片电阻
footprint SEN_LOG/RES & CAP/0805
pins: 1, 2
text: 10K

## SEN_LOG/RES/TEMPERATURE RES
designator RT?, comment 103KT1005T1P
温敏电阻
footprint SEN_LOG/RES & CAP/0402
pins: 1, 2
text: t ℃

## SEN_LOG/SW/SWITCH
designator SW?, comment SW_Pro
轻触按键
footprint SEN_LOG/SW/SWITCH
pins: 1A, 1B, 2A, 2B

## SEN_LOG/TEST POINT
designator TP?  (value not drawn)
测试点
footprint SEN_LOG/TEST POINT
pins: 0

## SEN_LOG/TRANSISTOR/NPN/BC847
designator Q?, comment BC847
NPN三极管

## SEN_LOG/TRANSISTOR/RTF010P02
designator Q?, comment RTF010P02
P沟道MOS管
footprint SEN_LOG/TRANSISTOR/RTF010P02
pins: 1 G, 2 S, 3 D

## SEN_LOG/TVS Diode/PESD12VS1UB
designator TVS?  (value not drawn)
ESD保护二极管\浪涌抑制二极管
pins: 1 A, 2 K

## SEN_LOG/XTAL/32.768KHz
designator Y?, comment 32.768K
32.768KHz晶振
pins: 1 OSC1, 2 OSC2

## SI2032
designator Q?
N Channel MOS Vgs = 4.5V Rds = 57mΩ
footprint SOT23_BC847B
pins: 1 G, 2 S, 3 D

## SIM808
designator U?
GPS GPRS Module
footprint SIM808
pins: 1 GND (power), 2 GND (power), 3 GND (power), 4 VBAT (power), 5 VBAT (power), 6 VBAT (power), 7 VDD_EXT (power), 8 PWRKEY (in), 9 DTR (power), 10 RI (power), 11 DCD (power), 12 CTS (power), 13 RTS (power), 14 TXD (out), 15 RXD (in), 16 RESET (in), 17 VRTC (power), 18 GND (power), 19 MIC1P (power), 20 MIC1N (power), 21 SPK1P (power), 22 SPK1N (power), 23 ADC0 (power), 24 ADC1 (power), 25 VCHG (power), 26 USB_DP (power), 27 USB_DN (power), 28 GND (power), 29 SIM_VDD (power), 30 SIM_DATA (io), 31 SIM_CLK (out), 32 SIM_RST (out), 33 SIM_DET, 34 GND (power), 35 GPS_ANT (power), 36 GND (power), 37 1PPS (out), 38 SDA (io), 39 SCL (out), 40 GND (power), 41 PWM2 (power), 42 PWM1 (power), 43 GPIO19 (power), 44 GPIO17 (power), 45 PCM_SYNC (power), 46 PCM_CLK (power), 47 PCM_IN (power), 48 PCM_OUT (power), 49 STATUS (out), 50 NETLIGHT (out), 51 GND (power), 52 GND (power), 53 BT_ANT (power), 54 GND (power), 55 KBR3 (power), 56 KBR2 (power), 57 KBR1 (power), 58 KBR0 (power), 59 KBC3 (power), 60 KBC2 (power), 61 KBC1 (power), 62 KBC0 (power), 63 RF_SYNC (out), 64 GND (power), 65 GND (power), 66 GSM_ANT (power), 67 GND (power), 68 GND (power)

## SMF05C
designator D?
ESD Protect Diode Array 6
footprint SC70-6L_SMF05C
pins: 1 K, 2 A, 3 K, 4 K, 5 K, 6 K

## Spring Antenna
designator J?, comment ANT
Spring ANT
footprint Spring ANT
pins: 1 ANT (power)

## STM32L151VCT6
designator U?
ARM Cortex-M3 MCU LQFP100
footprint TQFP-100
part A pins: 1 PE2, 2 PE3, 3 PE4, 4 PE5, 5 PE6-WKUP3, 7 PC13-WKUP2, 8 PC14-OSC32_IN, 9 PC15-OSC32_OUT, 12 PH0-OSC_IN, 13 PH1-OSC_OUT, 14 NRST, 15 PC0, 16 PC1, 17 PC2, 18 PC3, 23 PA0-WKUP1, 24 PA1, 25 PA2, 26 PA3, 29 PA4, 30 PA5, 31 PA6, 32 PA7, 33 PC4, 34 PC5, 35 PB0, 36 PB1, 37 PB2, 38 PE7, 39 PE8, 40 PE9, 41 PE10, 42 PE11, 43 PE12, 44 PE13, 45 PE14, 46 PE15, 47 PB10, 48 PB11, 51 PB12, 52 PB13, 53 PB14, 54 PB15, 55 PD8, 56 PD9, 57 PD10, 58 PD11, 59 PD12, 60 PD13, 61 PD14, 62 PD15, 63 PC6, 64 PC7, 65 PC8, 66 PC9, 67 PA8, 68 PA9, 69 PA10, 70 PA11, 71 PA12, 72 PA13, 73 PH2, 76 PA14, 77 PA15, 78 PC10, 79 PC11, 80 PC12, 81 PD0, 82 PD1, 83 PD2, 84 PD3, 85 PD4, 86 PD5, 87 PD6, 88 PD7, 89 PB3, 90 PB4, 91 PB5, 92 PB6, 93 PB7, 94 BOOT0, 95 PB8, 96 PB9, 97 PE0, 98 PE1
part B pins: 6 VLCD (power), 10 VSS_5 (power), 11 VDD_5 (power), 19 VSSA (power), 20 VREF- (power), 21 VREF+ (power), 22 VDDA (power), 27 VSS_4 (power), 28 VDD_4 (power), 49 VSS_1 (power), 50 VDD_1 (power), 74 VSS_2 (power), 75 VDD_2 (power), 99 VSS_3 (power), 100 VDD_3 (power)

## USR-BLE101
designator U?
Ultra Small BLE Module 10X10mm
footprint USR-BLE101
pins: 1 Reload, 2 Wake_up_key, 3 NC, 4 AD, 5 NC, 6 VCC, 7 NC, 8 NC, 9 UART_TX, 10 UART_RX, 11 Alert-LED, 12 Reset, 13 GND, 14 VCC

## XC6221A302GR
designator U?
LOW DROUPOUT LDO USP-4 3.0V 120mA; Value: XC6221A302GR
footprint USP-4
pins: 1 VOUT (out), 2 VSS (power), 3 CE (in), 4 VIN (in), 5 GND (power)

## XTAL/8MHz/3.2X2.5MM
designator Y?  (value not drawn)
8MHz无源贴片晶振3.2X2.5MM
footprint XTAL/8MHz/3.2X2.5MM
pins: 1 OSC1, 2 GND, 3 OSC2, 4 NC

## XTAL/8MHz/5X3.2mm
designator X?, comment 8MHz
8MHz无源贴片晶振
footprint XTAL 8MHz 5X3.2mm
pins: 1 OSC1, 2 GND, 3 OSC2, 4 NC

## XTAL/27.12MHz/2.5X2mm
designator X?, comment 27.12MHz
NDK无源贴片晶振
footprint NDK XTAL 27.12MHz 2.5X2MM
pins: 1 OSC1, 2 GND, 3 OSC2, 4 NC

## XTAL/SM/32.768kHz
designator Y?  (value not drawn)
32.768kHz,无源贴片晶振
footprint XTAL 3215 32.768kHz
pins: 1 OSC1, 2 OSC2

## ZM470SX-M
designator U?
470MHz LoRa Transmiter/Receiver; Value: ZM470SX-M
footprint ZM470SX-M
pins: 1 GND, 2 GND, 3 GND, 4 GND, 5 DIO0, 6 DIO1, 7 DIO2, 8 DIO3, 9 NC, 10 DIO5, 11 GND, 12 GND, 13 VCC, 14 SCK, 15 MISO, 16 MOSI, 17 SEL, 18 RST, 19 GND, 20 GND, 21 ANT, 22 GND